# EAGLE library part DSP2A-L2 (library DSP2A-L2)
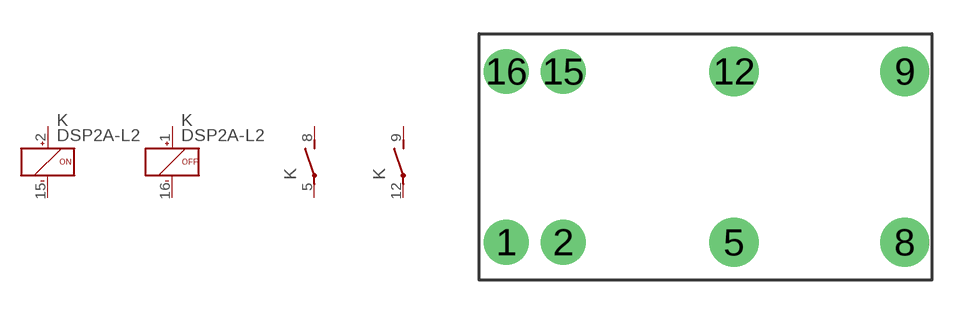
[diagram p0: symbol with the pads of DSP2A-L2; footprint DSP2A-L2]

Designator prefix K; gates ON=K+-ON OFF=K+-OFF S1=S S2=S

## DSP2A-L2  [DSP2A-L2]
1  OFF:+  pas
2  ON:+  pas
5  S1:S  pas
8  S1:C  pas
9  S2:C  pas
12  S2:S  pas
15  ON:-  pas
16  OFF:-  pas

## Footprint DSP2A-L2 (pad centres in mm)
drill 1.2 pad 2: 1 -8.89,-3.81; 2 -6.35,-3.81; 15 -6.35,3.81; 16 -8.89,3.81
drill 1.2 pad 2.2: 5 1.27,-3.81; 8 8.89,-3.81; 9 8.89,3.81; 12 1.27,3.81